# Altium schematic symbol library UOMP transistors.SchLib: 18 symbols
Pins are listed as number, name and electrical type; pins without a type are passive.

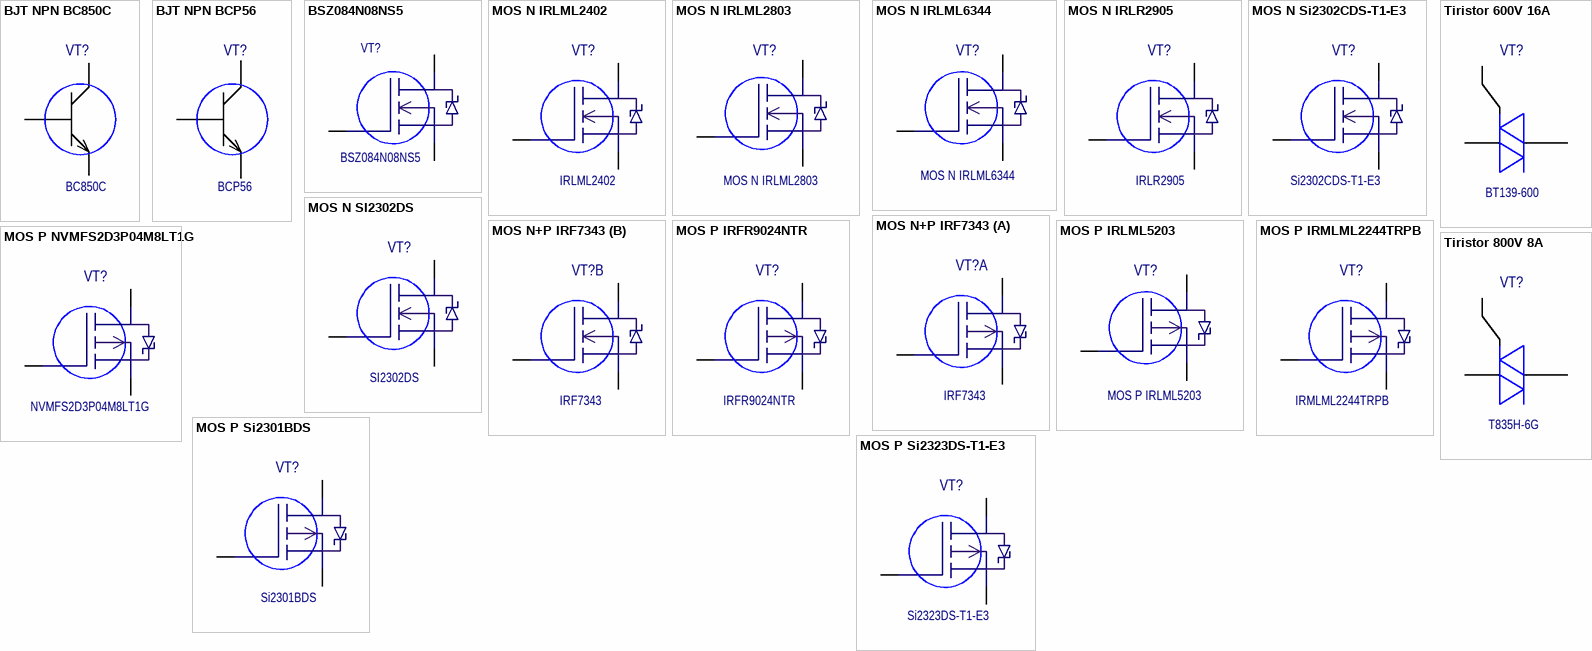
[diagram p0: symbols BJT NPN BC850C to Tiristor 800V 8A]

## BJT NPN BC850C
designator VT?, comment BC850C
Code: 6340001151; Name: Транзистор BC850C,215, Nexperia
footprint IC: SOT 23
pins: 1, 2, 3

## BJT NPN BCP56
designator VT?, comment BCP56
Code: 6341295616; Name: Транзистор BCP56-16 ITC, Infinion
footprint IC: SOT 223
pins: 1, 2, 3, 4

## BSZ084N08NS5
designator VT?
Code: 6349995291; Name: Транзистор BSZ084N08NS5ATMA1, Infenion
footprint TSDSON-8
pins: D, G, S

## MOS N IRLML2402
designator VT?, comment IRLML2402
Code: 6340015721; Name: Транзистор IRLML2402TRPBF
footprint IC: SOT 23
pins: 1, 2, 3

## MOS N IRLML2803
designator VT?
Code: 6349984851; Name: Транзистор IRLML2803, Infineon
footprint IC: SOT 23
pins: 1, 2, 3

## MOS N IRLML6344
designator VT?
footprint IC: SOT 23
pins: 1, 2, 3

## MOS N IRLR2905
designator VT?, comment IRLR2905
Code: 6349989951; Name: Транзистор IRLR2905TRPBF, Infineon
footprint IC: TO 252 IPC-782 (D-PAK, 3-Pads, Body 6,2x6,4mm (max), IPC Medium Density)
pins: 1, 2, 3

## MOS N Si2302CDS-T1-E3
designator VT?, comment Si2302CDS-T1-E3
Code: 6349982201; Name: Транзистор Si2302CDS-T1-E3,  Vishay
footprint IC: SOT 23
pins: 1, 2, 3

## MOS N SI2302DS
designator VT?, comment SI2302DS
Code: 6340016161; Name: Транзистор SI2302DS.215
footprint IC: SOT 23
pins: 1, 2, 3

## MOS N+P IRF7343
designator VT?, comment IRF7343
Code: 6340003211; Name: Транзистор IRF7343TRBPF, Infineon
footprint IC: SOIC 8
part A pins: 3, 4, 5, 6
part B pins: 1, 2, 7, 8

## MOS P IRFR9024NTR
designator VT?, comment IRFR9024NTR
Code: 6349981661; Name: Транзистор IRFR9024NTRPBF
footprint IC: TO 252 IPC-782 (D-PAK, 3-Pads, Body 6,2x6,4mm (max), IPC Medium Density)
pins: 1, 2, 3

## MOS P IRLML5203
designator VT?
Code: 6349987681; Name: Транзистор IRLML5203TRPBF, Infineon
footprint IC: SOT 23
pins: 1, 2, 3

## MOS P IRMLML2244TRPB
designator VT?, comment IRMLML2244TRPB
Code: 6349989541; Name: Транзистор IRLML2244TRPBF, Infineon
footprint IC: SOT 23
pins: 1, 2, 3

## MOS P NVMFS2D3P04M8LT1G
designator VT?, comment NVMFS2D3P04M8LT1G
Code: 6349995361; Name: Транзистор NVMFS2D3P04M8LT1G, ONS
footprint SO 8FL
pins: D, G S, S G

## MOS P Si2301BDS
designator VT?, comment Si2301BDS
Code: 6340016391; Name: Транзистор SI2301CDS-T1-GE3
footprint IC: SOT 23
pins: 1, 2, 3

## MOS P Si2323DS-T1-E3
designator VT?, comment Si2323DS-T1-E3
Code: 6341292323; Name: Транзистор Si2323DS-T1-E3, Vishay
footprint IC: SOT 23
pins: 1, 2, 3

## Tiristor 600V 16A
designator VT?, comment BT139-600
Code: 6341239601; Name: Тиристор BT139-600
footprint IC: TO 220
pins: 1, 2, 3

## Tiristor 800V 8A
designator VT?, comment T835H-6G
Code: 6340013731; Name: Симистор T835H-6G
footprint IC: TO 263
pins: 1, 2, 3